# Altium footprint library ThreePhaseMLI.PcbLib: 17 footprints (part 2 of 2)
Each footprint in its own frame and in the unit in brackets; x right, y up, seen from the top. Pads: shape width x height; smd on the part's side, far side on the other; paste and mask are expansions set on the pad; w line width, h text height; cw(c..) or ccw(c..) is an arc to the next point about the centre after c.
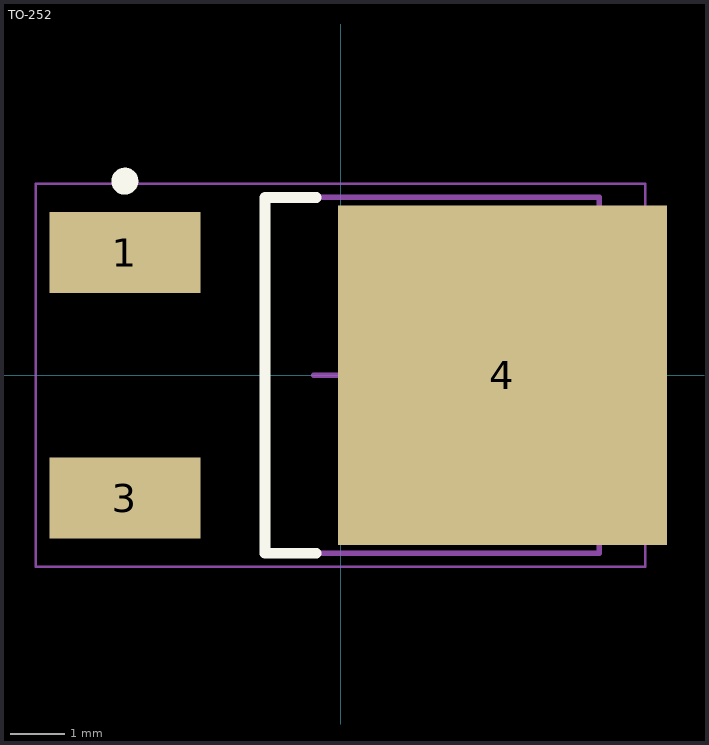
[diagram p1: the footprint, top view; thin cyan lines are the x and y axes]

## TO-252 [mm]
height 2.4
pads (3):
  rect 2.8x1.5 smd: 1(-4,2.275) 3(-4,-2.275)
  rect 6.1x6.3 smd: 4(3,0)
Top Overlay:
  circle w0.25: c-4,3.6 r0.125
  lines w0.2: -0.45,-3.3 -1.4,-3.3 -1.4,3.3 -0.45,3.3
Assembly Top:
  lines w0.1: -1.4,-3.3 -1.4,3.3 4.8,3.3 4.8,-3.3 -1.4,-3.3
Courtyard Top:
  lines w0.05: -5.65,-3.55 -5.65,3.55 5.65,3.55 5.65,-3.55 -5.65,-3.55
  lines w0.1: -0.5,0 0.5,0 ; 0,-0.5 0,0.5
3D body "User Library-DPAK_TO-252AA.step": height 2.41, standoff 0.01, extent -4.523,-3.367 5.577,3.367